# Altium footprint library Warrison.PcbLib: 39 footprints (part 3 of 3)
Each footprint in its own frame and in the unit in brackets; x right, y up, seen from the top. Pads: shape width x height; smd on the part's side, far side on the other; paste and mask are expansions set on the pad; w line width, h text height; cw(c..) or ccw(c..) is an arc to the next point about the centre after c.
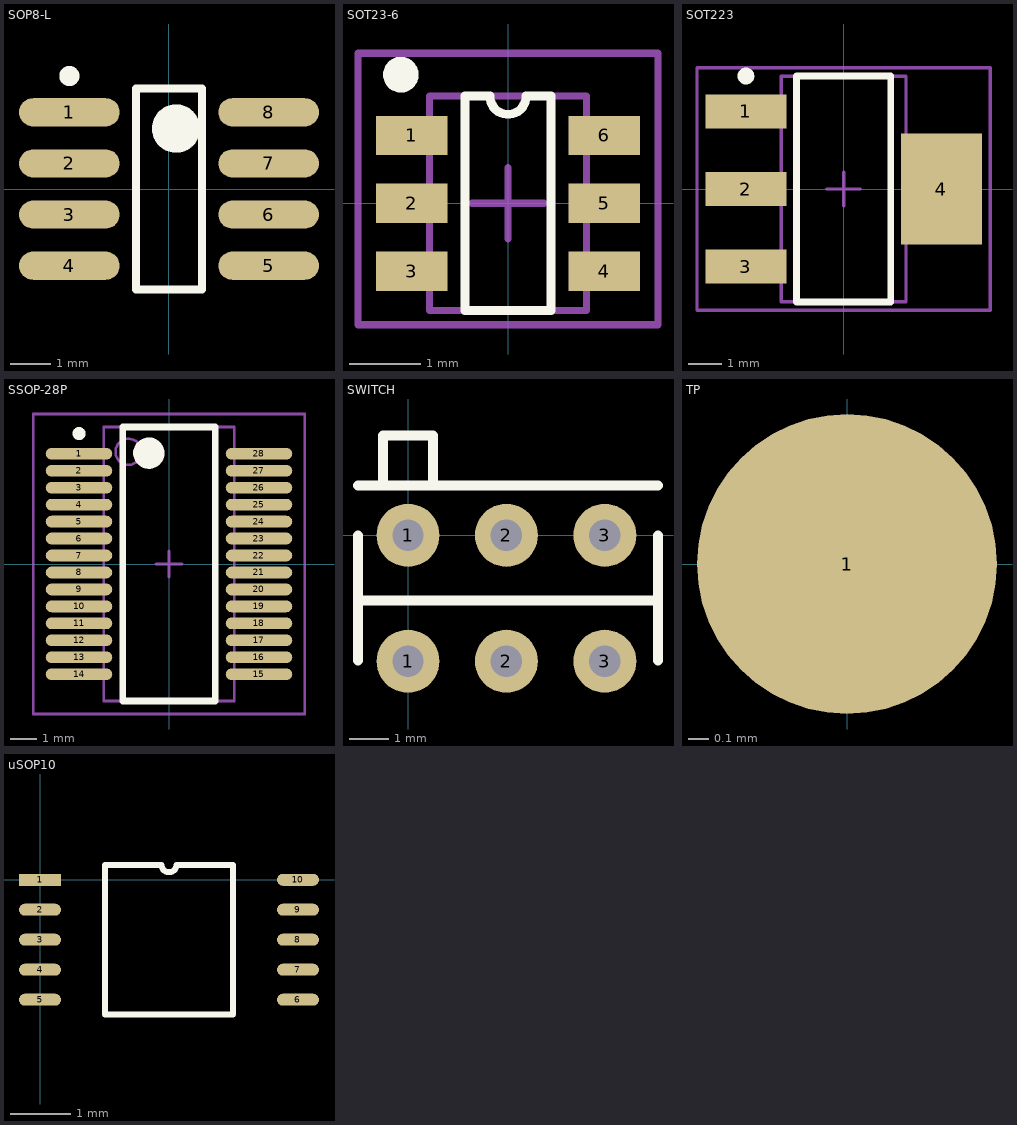
[diagram p2: the footprints below, top view; thin cyan lines are the x and y axes]

## SOP8-L [mm] "SOP, 8-Leads, Body 5.0x5.0mm (max), Pitch 1.27mm, IPC Low Density"
height 2.65
pads (8):
  oval 2.5x0.7 smd: 1(-2.475,1.905) 2(-2.475,0.635) 3(-2.475,-0.635) 4(-2.475,-1.905) 5(2.475,-1.905) 6(2.475,-0.635) 7(2.475,0.635) 8(2.475,1.905)
Top Overlay:
  circle w0.6: c0.175,1.5 r0.3
  circle w0.25: c-2.475,2.805 r0.125
  lines w0.2: -0.825,-2.5 0.825,-2.5 0.825,2.5 -0.825,2.5 -0.825,-2.5
3D body: height 2.65, standoff 0.1, extent -2.5,-2.5 2.5,2.5

## SOT23-6 [mm]
pads (6):
  rect 1x0.55 smd: 1(-1.35,0.95) 2(-1.35,0) 3(-1.35,-0.95) 4(1.35,-0.95) 5(1.35,0) 6(1.35,0.95)
Top Overlay:
  circle w0.25: c-1.5,1.8 r0.125
  lines w0.125: -0.254,1.5 ccw(c0,1.5) 0.254,1.5 ; -0.25,1.5 -0.6,1.5 -0.6,-1.5 0.6,-1.5 0.6,1.5 0.26,1.5
Mechanical 13:
  lines w0.1: -1.1,-1.5 1.1,-1.5 1.1,1.5 -1.1,1.5 -1.1,-1.5
Mechanical 15:
  lines w0.1: -0.5,0 0.5,0 ; 0,-0.5 0,0.5 ; -2.1,-1.7 2.1,-1.7 2.1,2.1 -2.1,2.1 -2.1,-1.7
3D body: height 1.7, standoff 0, extent -1.1,-1.5 1.1,1.5

## SOT223 [mm]
pads (4):
  rect 2.4x1 smd: 1(-2.9,2.3) 2(-2.9,0) 3(-2.9,-2.3)
  rect 2.4x3.3 smd: 4(2.9,0)
Top Overlay:
  circle w0.25: c-2.9,3.35 r0.125
  lines w0.2: -1.4,-3.35 1.4,-3.35 1.4,3.35 -1.4,3.35 -1.4,-3.35
Mechanical 13:
  lines w0.1: -1.85,-3.35 1.85,-3.35 1.85,3.35 -1.85,3.35 -1.85,-3.35
Mechanical 15:
  lines w0.1: -0.5,0 0.5,0 ; 0,-0.5 0,0.5 ; -4.35,-3.6 4.35,-3.6 4.35,3.6 -4.35,3.6 -4.35,-3.6
3D body: height 1.7, standoff 0, extent -1.85,-3.35 1.85,3.35

## SSOP-28P [mm] "28-Leads, Body 10.5x5.0mm (max), Pitch 0.65mm, IPC Low Density"
height 2
pads (28):
  oval 2.55x0.45 smd: 1(-3.45,4.225) 2(-3.45,3.575) 3(-3.45,2.925) 4(-3.45,2.275) 5(-3.45,1.625) 6(-3.45,0.975) 7(-3.45,0.325) 8(-3.45,-0.325) 9(-3.45,-0.975) 10(-3.45,-1.625) 11(-3.45,-2.275) 12(-3.45,-2.925) 13(-3.45,-3.575) 14(-3.45,-4.225) 15(3.45,-4.225) 16(3.45,-3.575) 17(3.45,-2.925) 18(3.45,-2.275) 19(3.45,-1.625) 20(3.45,-0.975) 21(3.45,-0.325) 22(3.45,0.325) 23(3.45,0.975) 24(3.45,1.625) 25(3.45,2.275) 26(3.45,2.925) 27(3.45,3.575) 28(3.45,4.225)
Top Overlay:
  circle w0.6: c-0.775,4.25 r0.3
  circle w0.25: c-3.45,5 r0.125
  lines w0.254: -1.775,-5.25 1.775,-5.25 1.775,5.25 -1.775,5.25 -1.775,-5.25
Mechanical 13:
  circle w0.1: c-1.55,4.3 r0.5
  lines w0.1: -2.5,-5.25 2.5,-5.25 2.5,5.25 -2.5,5.25 -2.5,-5.25
Mechanical 15:
  lines w0.1: -0.5,0 0.5,0 ; 0,-0.5 0,0.5 ; -5.2,-5.75 5.2,-5.75 5.2,5.75 -5.2,5.75 -5.2,-5.75
3D body: height 2, standoff 0.1, extent -2.5,-5.25 2.5,5.25

## SWITCH [mm]
pads (6):
  round 1.6 hole 0.8: 1(0,-3.2) 1(0,0) 2(2.5,-3.2) 2(2.5,0) 3(5,-3.2) 3(5,0)
Top Overlay:
  lines w0.254: -1.27,-3.175 -1.27,0 ; -1.27,1.27 6.35,1.27 ; -1.143,-1.651 6.35,-1.651 6.35,0 6.35,-3.175 ; -0.635,1.27 -0.635,2.54 0.635,2.54 0.635,1.397

## TP [mm] "Test point"
pads (1):
  round 1.5 smd: 1(0,0)

## uSOP10 [mm]
pads (10):
  rect 0.7x0.2 smd: 1(0,0)
  oval 0.7x0.2 smd: 2(0,-0.5) 3(0,-1) 4(0,-1.5) 5(0,-2) 6(4.3,-2) 7(4.3,-1.5) 8(4.3,-1) 9(4.3,-0.5) 10(4.3,0)
Top Overlay:
  lines w0.1: 1.085,-2.25 1.085,0.25 2.025,0.25 ccw(c2.15,0.25) 2.275,0.25 3.215,0.25 3.215,-2.25 1.085,-2.25